# Altium schematic symbol library SamacSys.SchLib: 2 symbols
Pins are listed as number, name and electrical type; pins without a type are passive.

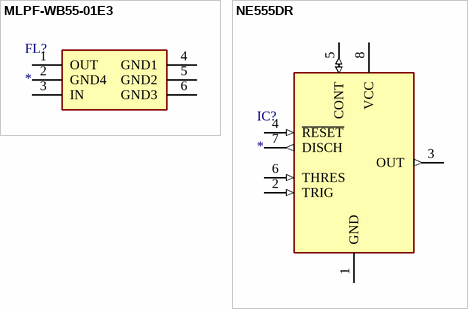
[diagram p0: symbols MLPF-WB55-01E3 to NE555DR]

## MLPF-WB55-01E3
designator FL?
Filter; Manufacturer_Name: STMicroelectronics; Manufacturer_Part_Number: MLPF-WB55-01E3; Description: RF Wireless Misc 2.4 GHz Low Pass Filter matched to STM32WB55; Datasheet Link: https://componentsearchengine.com/Datasheets/1/MLPF-WB55-01E3.pdf; Height: 0.7mm; Mouser Part Number: 511-MLPF-WB55-01E3; Mouser Price/Stock: https://www.mouser.com/Search/Refine.aspx?Keyword=511-MLPF-WB55-01E3
footprint MLPFWB5501E3
pins: 1 OUT, 2 GND4, 3 IN, 4 GND1, 5 GND2, 6 GND3

## NE555DR
designator IC?
Integrated Circuit; Manufacturer_Name: Texas Instruments; Manufacturer_Part_Number: NE555DR; Datasheet Link: http://www.ti.com/lit/ds/symlink/ne555.pdf; Height: 1.75mm; Mouser Part Number: 595-NE555DR; Mouser Price/Stock: https://www.mouser.com/Search/Refine.aspx?Keyword=595-NE555DR; RS Part Number: 1218414; RS Price/Stock: http://uk.rs-online.com/web/p/products/1218414
footprint SOIC127P600X175-8N
pins: 1 GND (power), 2 TRIG (in), 3 OUT (out), 4 ~{RESET} (in), 5 CONT (io), 6 THRES (in), 7 DISCH (out), 8 VCC (power)